# Altium schematic symbol library D_TVS_UNI_PAIR.Schlib: 1 symbol
Pins are listed as number, name and electrical type; pins without a type are passive.

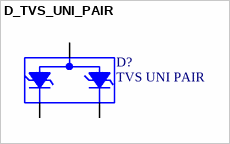
[diagram p0: symbol D_TVS_UNI_PAIR]

## D_TVS_UNI_PAIR
designator D?, comment TVS UNI PAIR
pins: A, C1, C2